# EAGLE library part 615006143221 (library Wuerth_Elektronik_eiCan_Modular_Jack_Connectors_v1.1)
WR-MJ Horizontal Shielded 6P6C Modular Jack Tab Up, 6 pins
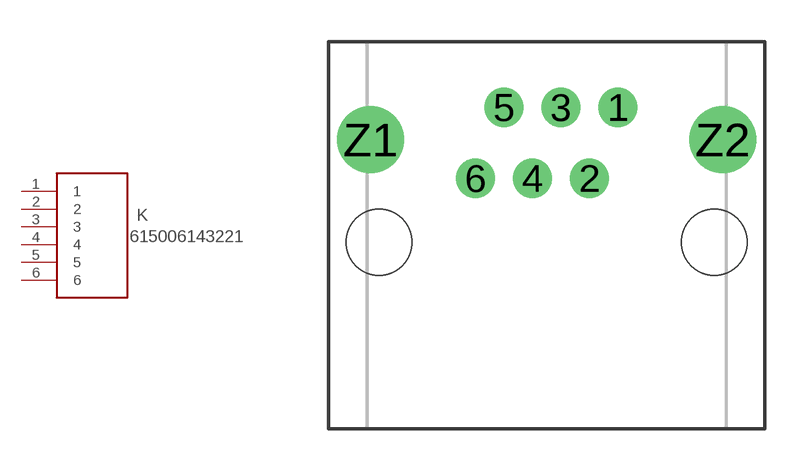
[diagram p0: symbol with the pads of 615006143221; footprint 615006143221]

Designator prefix K

## 615006143221  [615006143221]
1  1  pas
2  2  pas
3  3  pas
4  4  pas
5  5  pas
6  6  pas

## Footprint 615006143221 (pad centres in mm)
WR-MJ Horizontal Shielded 6P6C Modular Jack Tab Up, 6 pins
drill 0.9 round: 1 2.55,1.27; 2 1.53,-1.27; 3 0.51,1.27; 4 -0.51,-1.27; 5 -1.53,1.27; 6 -2.55,-1.27
drill 1.6 round: Z1 -6.3,0.11; Z2 6.3,0.11
hole 2.36 at -6,-3.57
hole 2.36 at 6,-3.57